# Altium schematic symbol library afra.SchLib: 135 symbols (part 1 of 4)
Pins are listed as number, name and electrical type; pins without a type are passive.

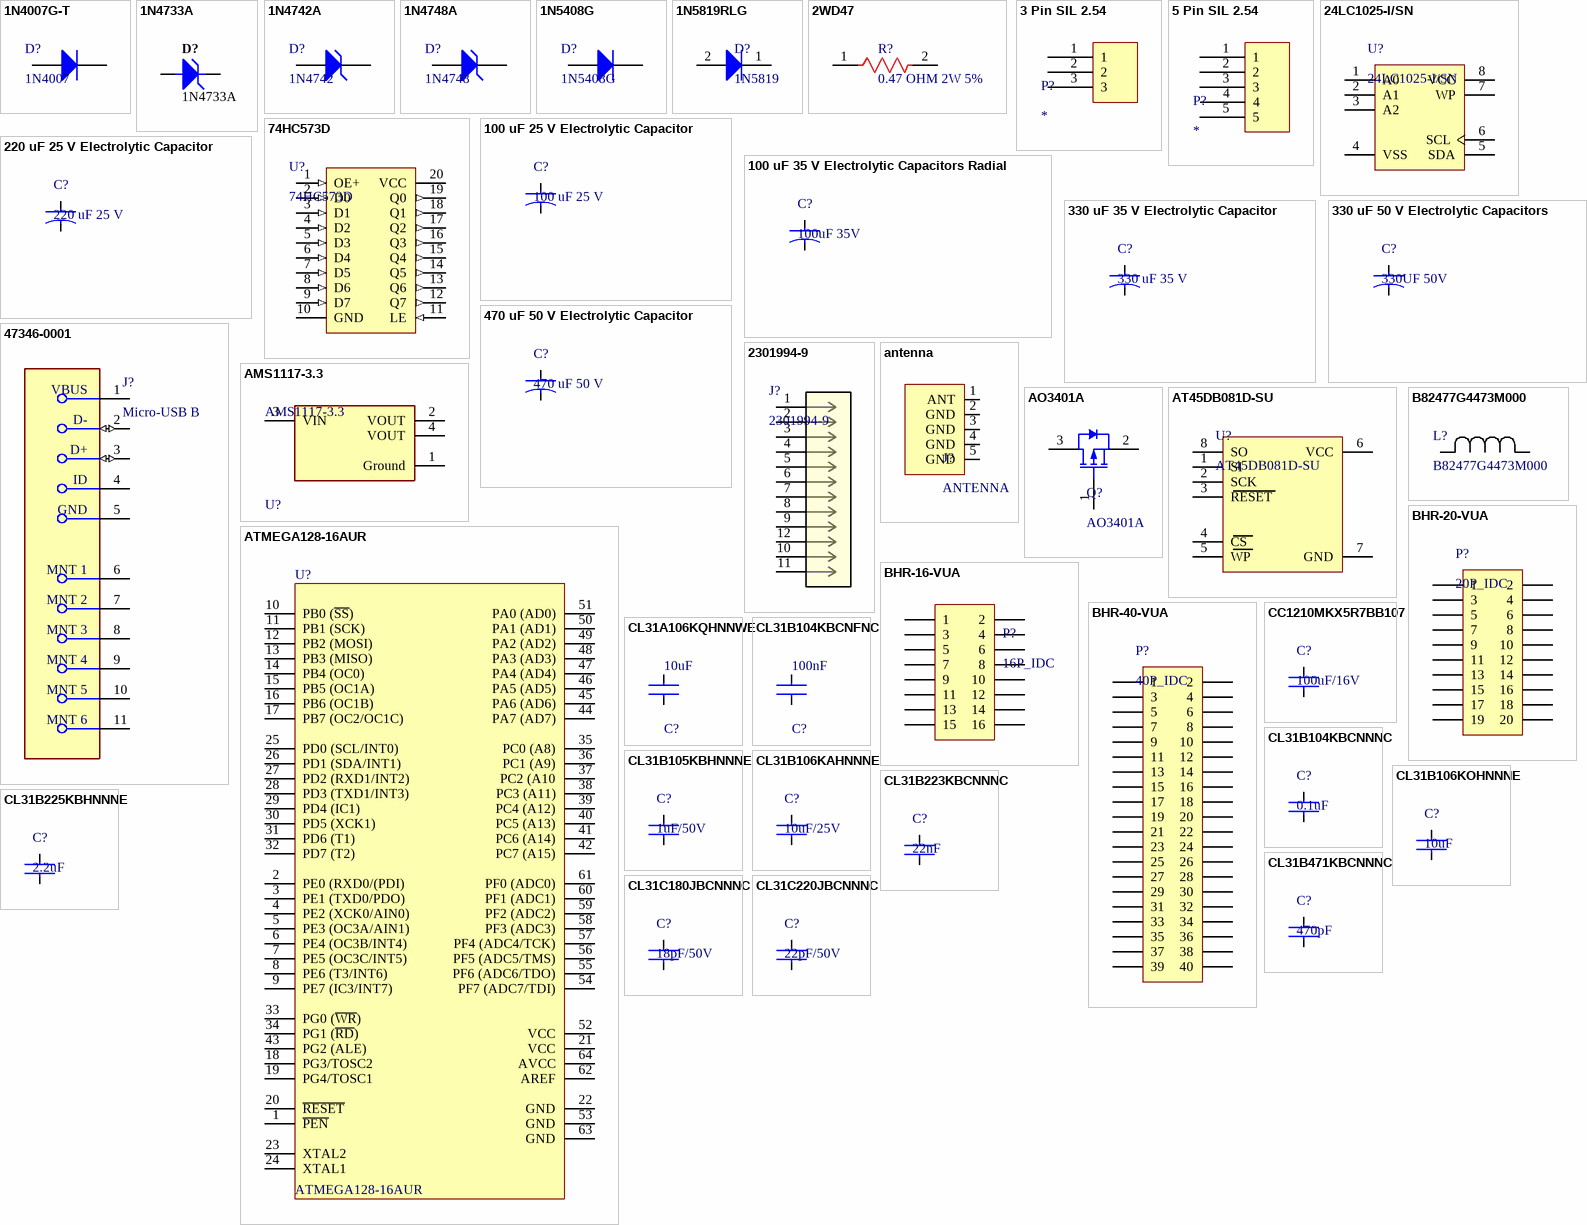
[diagram p0: symbols 1N4007G-T to CL31C220JBCNNNC]

## 1N4007G-T
designator D?, comment 1N4007
Diode Standard 1000V (1kV) 1A Through Hole DO-41; Manufacturer: Diodes; Manufacturer Part Number: 1N4007G-T; Max Reverse Current: 5uA; Element Configuration: Single; Max Surge Current: 30A; Forward Voltage: 1V; Reverse Recovery Time: 2us; Capacitance: 8pF; Supplier 1: Newark; RoHS: Yes; Category: Rectifier Diodes; Stock 1: 4695; Pricing 1: 1=0.30700, 5=0.30700, 10=0.21700, 25=0.18400, 50=0.15000, 100=0.11700 (USD); Mount: Through Hole; Case/Package: DO-41; Number of Pins: 2; Weight: 0.010582oz; Min Operating Temperature: -65°C; Max Operating Temperature: 175°C; Packaging: Tape and Reel; Package Quantity: 5000; Polarity: Standard; Voltage Rating (DC): 1kV; Current Rating: 1A; Output Current: 1A; Average Rectified Current: 1A; Max Repetitive Reverse Voltage (Vrrm): 1kV; Peak Non-Repetitive Surge Current: 30A; Max Reverse Voltage (DC): 1kV; Recovery Time: 2us; Forward Current: 1A; Reverse Voltage (DC): 1kV; Series: -; Length: 4.7mm; Width: 2.71mm; Height: 2.71mm; Radiation Hardening: No; Lead Free: Lead Free; RoHS Compliant: Yes; ComponentLink1URL: https://datasheet.ciiva.com/36525/1537942-36525995.pdf?src-supplier=Jameco; ComponentLink1Description: https://datasheet.ciiva.com/36525/1537942-36525995.pdf?src-supplier=Jameco; ComponentLink2URL: https://datasheet.ciiva.com/16395/ds29002-16395514.pdf?src-supplier=Future+Electronics; ComponentLink2Description: https://datasheet.ciiva.com/16395/ds29002-16395514.pdf?src-supplier=Future+Electronics; ComponentLink3URL: https://datasheet.ciiva.com/15219/getdatasheetpartid-213960-15219547.pdf?src-supplier=Verical; ComponentLink3Description: https://datasheet.ciiva.com/15219/getdatasheetpartid-213960-15219547.pdf?src-supplier=Verical; ComponentLink4URL: https://datasheet.ciiva.com/912/ds29002-912230.pdf?src-supplier=Digi-Key; ComponentLink4Description: https://datasheet.ciiva.com/912/ds29002-912230.pdf?src-supplier=Digi-Key; Supplier Part Number 1: 69AH4072
footprint DIODE-41 (AXIAL, 2-Leads, Diameter 2.35mm)
pins: 1 K, 2 A

## 1N4733A
designator D?
Zener Diode, 5.1V, 1W, 5%, -65 to 200 degC, 2-Pin DO-41, Body 2.72 x 5.2 mm, RoHS; Manufacturer: Fairchild Semiconductor; ZZ (Max) (ohm): 7; IR (uA): 10; VZ (Min.) (V): 4.845; Test Current IZ (mA): 49; VZ (Max.) (V): 5.355; PD (W): 1; PartNumber: 1N4733A; Tolerance: 5%; ComponentLink1Description: Manufacturer URL; ComponentLink2Description: Datasheet; DatasheetVersion: Rev. H3; ComponentLink3URL: http://www.fairchildsemi.com/dwg/DO/DO41A.pdf; ComponentLink1URL: http://www.fairchildsemi.com/; Operating and Storage Temperature Range: -65 to 200 degC; ComponentLink2URL: http://www.fairchildsemi.com/ds/1N/1N4744A.pdf; PackageReference: DO-41-2; ComponentLink3Description: Package Specification; PackageVersion: Rev. 2; RoHS: TRUE; Mounting Technology: Through Hole; PackageDescription: 2-Pin Axial leaded, Body 2.72 x 5.2 mm, Lead Spread 25.4 mm
footprint Zener Diode (Silicone Diode Axial 0.4) (2-Leads, Axial leaded, Body 2.72x5.2mm, Pin Spacing 9mm)
pins: 1 A, 2 K

## 1N4742A
designator D?, comment 1N4742
1N4742 Series 1 W 12 V 5 uA Through Hole Zener Diode - DO-41; Manufacturer: ON Semiconductor / Fairchild; Manufacturer Part Number: 1N4742A; Material: Glass; Zener Voltage: 12V; Max Power Dissipation: 1W; Element Configuration: Single; Max Reverse Leakage Current: 5uA; Impedance: 9R; Voltage Tolerance: 5%; Test Current: 21mA; Output Current: 1.2A; ESD Protection: No; Supplier 1: Newark; RoHS: Yes; Category: Zener Diodes; Mount: Through Hole; Case/Package: DO-41-2; Number of Pins: 2; Weight: 0.245g; Contact Plating: Tin,Matte; Min Operating Temperature: -65°C; Max Operating Temperature: 200°C; Packaging: Bulk; Power Dissipation: 1W; Package Quantity: 1000; Tolerance: 5%; Voltage Rating (DC): 12V; Power Rating: 1W; Max Reverse Current: 5uA; Breakdown Voltage: 12V; Zener Current: 21mA; Working Voltage: 12V; Length: 0.25inch; Width: 2inch; Height: 0.25inch; Radiation Hardening: No; Lead Free: Lead Free; REACH SVHC: No SVHC; RoHS Compliant: Yes; ComponentLink1URL: https://datasheet.ciiva.com/8084/1n4730a-8084138.pdf?src-supplier=Avnet; ComponentLink1Description: https://datasheet.ciiva.com/8084/1n4730a-8084138.pdf?src-supplier=Avnet; ComponentLink2URL: https://datasheet.ciiva.com/16790/1n4742a-16790661.pdf?src-supplier=Future+Electronics; ComponentLink2Description: https://datasheet.ciiva.com/16790/1n4742a-16790661.pdf?src-supplier=Future+Electronics; ComponentLink3URL: https://datasheet.ciiva.com/15208/getdatasheetpartid-202460-15208374.pdf?src-supplier=Verical; ComponentLink3Description: https://datasheet.ciiva.com/15208/getdatasheetpartid-202460-15208374.pdf?src-supplier=Verical; ComponentLink4URL: https://datasheet.ciiva.com/6389/1n4731a-6389388.pdf?src-supplier=Digi-Key; ComponentLink4Description: https://datasheet.ciiva.com/6389/1n4731a-6389388.pdf?src-supplier=Digi-Key; ComponentLink5URL: https://datasheet.ciiva.com/1245/1482758-1245342.pdf?src-supplier=Newark; ComponentLink5Description: https://datasheet.ciiva.com/1245/1482758-1245342.pdf?src-supplier=Newark; Supplier Part Number 1: 26AC5800
footprint Zener Diode (Silicone Diode Axial 0.4) (2-Leads, Axial leaded, Body 2.72x5.2mm, Pin Spacing 9mm)
pins: 1 A, 2 K

## 1N4748A
designator D?, comment 1N4748
1N4748 Series 1 W 22 V 5 uA Through Hole Zener Diode - DO-41; Manufacturer: ON Semiconductor / Fairchild; Manufacturer Part Number: 1N4748A; Material: Glass; Zener Voltage: 22V; Element Configuration: Single; Max Power Dissipation: 1W; Impedance: 23R; Voltage Tolerance: 5%; Test Current: 11.5mA; Max Reverse Leakage Current: 5uA; Output Current: 2.2A; ESD Protection: Yes; Supplier 1: Newark; RoHS: Yes; Category: Zener Diodes; Stock 1: 16500; Pricing 1: 1=0.04300, 1000=0.04300, 2000=0.04300, 3000=0.04200, 5000=0.04200, 10000=0.04100 (USD); Mount: Through Hole; Case/Package: DO-41-2; Number of Pins: 2; Contact Plating: Tin,Lead; Weight: 0.245g; Min Operating Temperature: -65°C; Max Operating Temperature: 200°C; Packaging: Bulk; Power Dissipation: 1W; Package Quantity: 1000; Tolerance: 5%; Zener Current: 11.5mA; Voltage Rating (DC): 22V; Power Rating: 1W; Max Reverse Current: 5uA; Working Voltage: 22V; Breakdown Voltage: 22V; Length: 0.25inch; Width: 0.25inch; Height: 0.25inch; Radiation Hardening: No; Lead Free: Lead Free; RoHS Compliant: Yes; REACH SVHC: No SVHC; ComponentLink1URL: https://datasheet.ciiva.com/27051/1200282-27051681.pdf?src-supplier=Jameco; ComponentLink1Description: https://datasheet.ciiva.com/27051/1200282-27051681.pdf?src-supplier=Jameco; ComponentLink2URL: https://datasheet.ciiva.com/15142/getdatasheetpartid-70017-15142358.pdf?src-supplier=Verical; ComponentLink2Description: https://datasheet.ciiva.com/15142/getdatasheetpartid-70017-15142358.pdf?src-supplier=Verical; ComponentLink3URL: https://datasheet.ciiva.com/8059/1482758-8059641.pdf?src-supplier=Element14; ComponentLink3Description: https://datasheet.ciiva.com/8059/1482758-8059641.pdf?src-supplier=Element14; ComponentLink4URL: https://datasheet.ciiva.com/16818/1n4731a-16818107.pdf?src-supplier=Future+Electronics; ComponentLink4Description: https://datasheet.ciiva.com/16818/1n4731a-16818107.pdf?src-supplier=Future+Electronics; ComponentLink5URL: https://datasheet.ciiva.com/897/1n4731a-897586.pdf?src-supplier=Digi-Key; ComponentLink5Description: https://datasheet.ciiva.com/897/1n4731a-897586.pdf?src-supplier=Digi-Key; Supplier Part Number 1: 28AC6644
footprint Zener Diode (Silicone Diode Axial 0.4) (2-Leads, Axial leaded, Body 2.72x5.2mm, Pin Spacing 9mm)
pins: 1 A, 2 K

## 1N5408G
designator D?
Diode Standard 1000 V 3A Through Hole Axial; Manufacturer: ON Semiconductor; Element Configuration: Single; Max Reverse Current: 10uA; Forward Voltage: 1V; Max Repetitive Reverse Voltage (Vrrm): 1kV; Current Rating: 4A; Max Surge Current: 200A; Supplier 1: RSComponents; Manufacturer Part Number: 1N5408G; RoHS: Yes; Category: Rectifier Diodes; Stock 1: 2580; Pricing 1: 10=0.39100, 100=0.18300, 1000=0.14200, 2500=0.12500, 10000=0.10900 (USD); Case/Package: DO-201AD; Number of Pins: 2; Weight: 0.01lb; Contact Plating: Tin,Matte; Min Operating Temperature: -65°C; Max Operating Temperature: 150°C; Packaging: Bulk; Package Quantity: 500; Average Rectified Current: 3A; Polarity: Standard; Voltage Rating (DC): 1kV; Output Current: 3A; Max Reverse Voltage (DC): 1kV; Peak Non-Repetitive Surge Current: 200A; Series: -; Forward Current: 3A; Reverse Voltage: 1kV; Max Forward Surge Current (Ifsm): 200A; Diameter: 5.3mm; Length: 0.374inch; Width: 0.25inch; Height: 9.5mm; Radiation Hardening: No; RoHS Compliant: Yes; Lead Free: Lead Free; Halogen Free: Halogen Free; REACH SVHC: No SVHC; ComponentLink1URL: https://datasheet.ciiva.com/30479/0900766b811a6378-30479275.pdf?src-supplier=RSComponents; ComponentLink1Description: https://datasheet.ciiva.com/30479/0900766b811a6378-30479275.pdf?src-supplier=RSComponents; ComponentLink2URL: https://datasheet.ciiva.com/14557/70099587-14557735.pdf?src-supplier=Allied+Electronics; ComponentLink2Description: https://datasheet.ciiva.com/14557/70099587-14557735.pdf?src-supplier=Allied+Electronics; ComponentLink3URL: https://datasheet.ciiva.com/916/1n5400-d-916338.pdf?src-supplier=Digi-Key; ComponentLink3Description: https://datasheet.ciiva.com/916/1n5400-d-916338.pdf?src-supplier=Digi-Key; Supplier Part Number 1: 7743344
footprint Diodes_Inc_DO-201AD_MFG
pins: 1 K, 2 A

## 1N5819RLG
designator D?, comment 1N5819
Rectifier, 2-Pin Axial_Lead, Pb-Free, Tape and Reel; Manufacturer: On Semiconductor; PartNumber: 1N5819RLG; IFSM Max (A): 25; Configuration: Single; ComponentLink1Description: Manufacturer URL; ComponentLink2Description: Datasheet; ComponentLink3Description: Package Specification; Mounting Technology: Through Hole; ComponentLink3URL: http://www.onsemi.cn/pub_link/Collateral/59-10.PDF; DatasheetVersion: Rev. 10; ComponentLink1URL: http://www.onsemi.com/; Packing: Tape and Reel; PackageVersion: Rev. U, 02/2005; PackageDescription: 2-Pin, Axial Lead, Diameter 2.35 mm; ComponentLink2URL: http://www.onsemi.cn/pub_link/Collateral/1N5817-D.PDF; RoHS: TRUE; PackageReference: AXIAL_LEAD-2-59-10; Supplier 1: Newark; Supplier Part Number 1: 18C9038
footprint SMA (DO-214AC)
pins: 1 K, 2 A

## 2WD47
designator R?, comment 0.47 OHM 2W 5%
RESISTOR 2 WATT METAL OXIDE FILM FLAMEPROOF 0.47 OHM 5% AXIAL LEAD; Manufacturer: NTE Electronics; Manufacturer Part Number: 2WD47; Resistance: 470mR; Temperature Coefficient: 200ppm/°C; Supplier 1: Newark; RoHS: Yes; Category: Through-Hole Resistors; Pricing 1: 1=0.18800 (USD); Mount: Through Hole; Case/Package: Metal; Weight: 0.0024lb; Min Operating Temperature: -55°C; Max Operating Temperature: 200°C; Tolerance: 5%; Power Rating: 2W; Termination: Axial; Length: 3.25inch; Width: 0.25inch; Height: 0.25inch; RoHS Compliant: No; ComponentLink1URL: http://www.onlinecomponents.com/productFiles/mf-NTE/twow.pdf?src-supplier=Onlinecomponents.com; ComponentLink1Description: http://www.onlinecomponents.com/productFiles/mf-NTE/twow.pdf?src-supplier=Onlinecomponents.com; ComponentLink2URL: http://www.alliedelec.com/m/d/d44ce2bb19ec670cc5afc3c1f91c41cf.pdf?src-supplier=Allied+Electronics; ComponentLink2Description: http://www.alliedelec.com/m/d/d44ce2bb19ec670cc5afc3c1f91c41cf.pdf?src-supplier=Allied+Electronics; Supplier Part Number 1: 33C8349
footprint Axial 0.6
pins: 1, 2

## 3 Pin SIL 2.54
designator P?
footprint 3 Pin SIL 2.54
pins: 1, 2, 3

## 5 Pin SIL 2.54
designator P?
footprint 5 Pin SIL 2.54
pins: 1, 2, 3, 4, 5

## 24LC1025-I/SN
designator U?
1 Mbit, 400kHz, 2.5V, 8-Pin SOIC 150mil, Industrial Temperature; DatasheetVersion: revF, Oct-2008; Code_JEDEC: MS-012; Code_IPC: SOIC127P600-8; PackageVersion: revBB, Aug-2009; PackageDescription: 8-Lead Plastic Small Outline (SN) - Narrow, 3.90mm Body [SOIC]; PackageReference: SOIC-SN8; PartNumber: 24LC1025-I/SN; Supplier 1: Digi-Key; Supplier Part Number 1: 24LC1025-I/SN-ND
footprint SOIC-8 (SOIC, 8-Leads, Body 4.9x3.9mm, Pitch 1.27mm, IPC Low Density)
pins: 1 A0, 2 A1, 3 A2, 4 VSS, 5 SDA, 6 SCL, 7 WP, 8 VCC

## 74HC573D
designator U?
Latch Transparent 3-ST 8-CH D-Type 20-Pin SO / IC LATCH OCTAL D 3STATE 20SOIC; Manufacturer: NXP Semiconductors; Min Supply Voltage: 2V; Max Supply Voltage: 6V; Propagation Delay: 225ns; Polarity: Non-Inverting; High Level Output Current: -7.8mA; Number of Bits: 8; Low Level Output Current: 7.8mA; Operating Supply Voltage: 5V; Number of Elements: 1; Output Type: 3-STATE; Supplier 1: Win Source Electronics; Manufacturer Part Number: 74HC573D; RoHS: Yes; Category: Latches and Flip Flops; Stock 1: 278900; Pricing 1: 60=0.84300, 145=0.70200, 220=0.68200, 305=0.66200, 390=0.64200, 520=0.58100 (USD); Mount: Surface Mount; Case/Package: SO; Number of Pins: 20; Min Operating Temperature: -40°C; Max Operating Temperature: 125°C; Packaging: Bulk; Logic Function: Latch; Turn-On Delay Time: 225ns; Technology: CMOS; Output Current: 7.8mA; Voltage: 5V; Radiation Hardening: No; RoHS Compliant: Yes; Lead Free: Lead Free; REACH SVHC: No SVHC; ComponentLink1URL: https://datasheet.ciiva.com/15088/getdatasheetpartid-44256-15088034.pdf?src-supplier=Verical; ComponentLink1Description: https://datasheet.ciiva.com/15088/getdatasheetpartid-44256-15088034.pdf?src-supplier=Verical; ComponentLink2URL: https://datasheet.ciiva.com/16990/0900766b8002d0a0-16990362.pdf?src-supplier=Allied+Electronics; ComponentLink2Description: https://datasheet.ciiva.com/16990/0900766b8002d0a0-16990362.pdf?src-supplier=Allied+Electronics; ComponentLink3URL: https://datasheet.ciiva.com/14133/kk649588-649589-e-14133722.pdf?src-supplier=Distrelec; ComponentLink3Description: https://datasheet.ciiva.com/14133/kk649588-649589-e-14133722.pdf?src-supplier=Distrelec; Supplier Part Number 1: 27017-74HC573D
footprint SOIC20
footprint SOP-20
pins: 1 OE+ (in), 2 D0 (in), 3 D1 (in), 4 D2 (in), 5 D3 (in), 6 D4 (in), 7 D5 (in), 8 D6 (in), 9 D7 (in), 10 GND (power), 11 LE (in), 12 Q7 (out), 13 Q6 (out), 14 Q5 (out), 15 Q4 (out), 16 Q3 (out), 17 Q2 (out), 18 Q1 (out), 19 Q0 (out), 20 VCC (power)

## 100 uF 25 V Electrolytic Capacitor
designator C?, comment 100 uF 25 V
RZ Series Radial 25 V 100 uF Ø 6.3 x 11 mm 105 °C Electrolytic Capacitor; Manufacturer: Samwha; Manufacturer Part Number: RZ1E107M6L011BB280; Capacitance: 100uF; Voltage Rating: 25V; Supplier 1: Future Electronics; RoHS: Yes; Pricing 1: 3600=0.03300 (USD); Case/Package: Radial; Lead Free: Lead Free; ComponentLink1URL: http://www.samwha.com/electric/product/list_pdf2/RZ.pdf?src-supplier=Future+Electronics; ComponentLink1Description: http://www.samwha.com/electric/product/list_pdf2/RZ.pdf?src-supplier=Future+Electronics; Supplier Part Number 1: 1048642
footprint CAP_J-V_10X10P5_RUB
pins: 1, 2

## 100 uF 35 V Electrolytic Capacitors Radial
designator C?, comment 100uF 35V
Aluminum Electrolytic Capacitors Radial, Can - 1000 Hrs @ 105°C; Manufacturer: Panasonic; Manufacturer Part Number: EEU-HD1V101; Tolerance: 20%; Ripple Current: 150mA; Life (Hours): 1000Hour; Lead/Base Style: Straight; Polarity: Polar; Lead Diameter: 0.5mm; Supplier 1: Digi-Key; RoHS: Yes; Category: Aluminum Electrolytic Capacitors; Pricing 1: 1=0.85000, 10=0.60000, 50=0.45340, 100=0.39500, 500=0.29256, 1000=0.24868, 2500=0.23405, 5000=0.21942 (USD); Mount: Through Hole; Case/Package: Radial; Number of Pins: 2; Min Operating Temperature: -55°C; Max Operating Temperature: 105°C; Capacitance: 100uF; Packaging: Bulk; Voltage Rating: 35V; Package Quantity: 200; Voltage Rating (DC): 35V; Termination: Radial; Ripple Current (AC): 150mA; Voltage: 35V; Series: HD; Construction: RADIAL; Diameter: 6.3mm; Length: 11.2mm; Height: 11.2mm; Lead Pitch: 2.5mm; Height - Seated (Max): 0.5inch; Radiation Hardening: No; REACH SVHC: No SVHC; Lead Free: Lead Free; RoHS Compliant: Yes; ComponentLink1URL: https://datasheet.ciiva.com/11779/0900766b80fe5b03-11779839.pdf?src-supplier=RSComponents; ComponentLink1Description: https://datasheet.ciiva.com/11779/0900766b80fe5b03-11779839.pdf?src-supplier=RSComponents; Supplier Part Number 1: P15169-ND
footprint CAP_J-V_10X10P5_RUB
pins: 1, 2

## 220 uF 25 V Electrolytic Capacitor
designator C?, comment 220 uF 25 V
SD Series 25 V 220 uF 85°C 2 KHrs LS=3.5mm Radial Alum Electrolytic Capacitor; Manufacturer: Samwha; Manufacturer Part Number: SD1E227M0811MPF180; Supplier 1: Future Electronics; RoHS: No; Pricing 1: 1000=0.031500 (USD); Supplier Part Number 1: 5083998
footprint Multy_Radial_Capacitor
pins: 1, 2

## 330 uF 35 V Electrolytic Capacitor
designator C?, comment 330 uF 35 V
WB Series 35 V 330 uF 10 x 16 mm LS=5 mm 105°C Aluminum Electrolytic Capacitor; Manufacturer: Samwha; Manufacturer Part Number: WB1V337M10016BB; Supplier 1: Future Electronics; RoHS: No; Pricing 1: 1000=0.09360, 3000=0.07780, 4000=0.07720, 10000=0.07560, 15000=0.07490 (USD); Lead Free: Lead Free; Supplier Part Number 1: 2051425
footprint Multy_Radial_Capacitor
pins: 1, 2

## 330 uF 50 V Electrolytic Capacitors
designator C?, comment 330UF 50V
Aluminum Electrolytic Capacitors Radial, Can - 10000 Hrs @ 105°C; Manufacturer: Rubycon; Manufacturer Part Number: 50YXJ330M10X20; Tolerance: 20%; Ripple Current: 1.22A; Impedance: 60mR; Life (Hours): 10000Hour; Supplier 1: Digi-Key; RoHS: Yes; Category: Aluminum Electrolytic Capacitors; Stock 1: 72; Pricing 1: 1=0.82000, 10=0.57600, 50=0.43560, 100=0.37940, 500=0.28106, 1000=0.23890, 2500=0.22485, 5000=0.21080 (USD); Mount: Through Hole; Case/Package: Radial; Min Operating Temperature: -40°C; Max Operating Temperature: 105°C; Capacitance: 330uF; Termination: Radial; Package Quantity: 1000; Voltage Rating: 50V; Packaging: Bulk; Voltage Rating (DC): 50V; Series: YXJ; Diameter: 10mm; Height: 20mm; Lead Pitch: 5mm; Height - Seated (Max): 0.866inch; Radiation Hardening: No; REACH SVHC: No SVHC; RoHS Compliant: Yes; ComponentLink1URL: https://datasheet.ciiva.com/46371/1657883-46371898.pdf?src-supplier=Element14; ComponentLink1Description: https://datasheet.ciiva.com/46371/1657883-46371898.pdf?src-supplier=Element14; ComponentLink2URL: https://datasheet.ciiva.com/17513/e-yxj-17513675.pdf?src-supplier=Avnet+Europe; ComponentLink2Description: https://datasheet.ciiva.com/17513/e-yxj-17513675.pdf?src-supplier=Avnet+Europe; Supplier Part Number 1: 1189-1424-ND
footprint Multy_Radial_Capacitor
pins: 1, 2

## 470 uF 50 V Electrolytic Capacitor
designator C?, comment 470 uF 50 V
RZ Series Radial 50 V 470 uF Ø 12.5 x 25 mm 105 °C Electrolytic Capacitor; Manufacturer: Samwha; Manufacturer Part Number: RZ1H477M12025BB200; Capacitance: 470uF; Voltage Rating: 50V; Supplier 1: Future Electronics; RoHS: Yes; Pricing 1: 900=0.14700 (USD); Case/Package: Radial; Lead Free: Lead Free; ComponentLink1URL: https://datasheet.ciiva.com/17436/rz-17436439.pdf?src-supplier=Future+Electronics; ComponentLink1Description: https://datasheet.ciiva.com/17436/rz-17436439.pdf?src-supplier=Future+Electronics; Supplier Part Number 1: 1060779
footprint Multy_Radial_Capacitor
pins: 1, 2

## 47346-0001
designator J?, comment Micro-USB B
Micro-USB B Receptacle with Flange, Bottom Mount, Surface Mount, Lead-Free; Manufacturer: Molex; Manufacturer Part Number: 47346-0001; Supplier 1: Arrow Electronics; RoHS: Yes; Category: Headers and Wire Housings; Stock 1: 5771; Pricing 1: 1=1.09160, 10=0.90940, 25=0.90030, 100=0.76040, 250=0.75290, 500=0.74530, 1000=0.57460, 3000=0.56860, 6000=0.56250 (USD); ComponentLink1URL: https://datasheet.ciiva.com/30075/304740473460001-io-nectors-30075527.pdf?src-supplier=Onlinecomponents.com; ComponentLink1Description: https://datasheet.ciiva.com/30075/304740473460001-io-nectors-30075527.pdf?src-supplier=Onlinecomponents.com; ComponentLink2URL: https://datasheet.ciiva.com/16148/1700180473460001-io-nectors-16148917.pdf?src-supplier=Onlinecomponents.com; ComponentLink2Description: https://datasheet.ciiva.com/16148/1700180473460001-io-nectors-16148917.pdf?src-supplier=Onlinecomponents.com; ComponentLink3URL: https://datasheet.ciiva.com/22654/1630785-22654942.pdf?src-supplier=Element14; ComponentLink3Description: https://datasheet.ciiva.com/22654/1630785-22654942.pdf?src-supplier=Element14; ComponentLink4URL: https://datasheet.ciiva.com/4598/0473460001-io-connectors-146446-4598841.pdf?src-supplier=Mouser; ComponentLink4Description: https://datasheet.ciiva.com/4598/0473460001-io-connectors-146446-4598841.pdf?src-supplier=Mouser; ComponentLink5URL: https://datasheet.ciiva.com/1098/1698067-1098476.pdf?src-supplier=Element14; ComponentLink5Description: https://datasheet.ciiva.com/1098/1698067-1098476.pdf?src-supplier=Element14; ComponentLink6URL: https://datasheet.ciiva.com/11731/0900766b80dfe0a7-11731298.pdf?src-supplier=RSComponents; ComponentLink6Description: https://datasheet.ciiva.com/11731/0900766b80dfe0a7-11731298.pdf?src-supplier=RSComponents; ComponentLink7URL: https://datasheet.ciiva.com/16986/70266948-16986683.pdf?src-supplier=Allied+Electronics; ComponentLink7Description: https://datasheet.ciiva.com/16986/70266948-16986683.pdf?src-supplier=Allied+Electronics; ComponentLink8URL: https://datasheet.ciiva.com/28504/0473460001-io-connectors-28504587.pdf?src-supplier=Element14; ComponentLink8Description: https://datasheet.ciiva.com/28504/0473460001-io-connectors-28504587.pdf?src-supplier=Element14; ComponentLink9URL: https://datasheet.ciiva.com/46390/1681853-46390956.pdf?src-supplier=Element14; ComponentLink9Description: https://datasheet.ciiva.com/46390/1681853-46390956.pdf?src-supplier=Element14; Supplier Part Number 1: 47346-0001
footprint Micro_USB_47346- 1001
pins: 1 VBUS (power), 2 D- (io), 3 D+ (io), 4 ID, 5 GND (power), 6 MNT 1, 7 MNT 2, 8 MNT 3, 9 MNT 4, 10 MNT 5, 11 MNT 6

## 2301994-9
designator J?
No Description Available; Mfr_Name: TE Connectivity; Copyright: Copyright (C) 2022 Ultra Librarian. All rights reserved.; Manufacturer_Part_Number: 2301994-9; RefDes: RefDes; Type: DEV
footprint CONN12_2301994-9_TEC
pins: 1, 2, 3, 4, 5, 6, 7, 8, 9, 10, 11, 12

## AMS1117-3.3
designator U?
Fixed 15V 3.3V 1.3V @ 800mA SOT-223 Dropout Regulators(LDO) RoHS
footprint Advanced_Monolithic_Systems_AMS1117_IPC_A
pins: 1 Ground (power), 2 VOUT, 3 VIN (power), 4 VOUT

## antenna
designator J?, comment ANTENNA
footprint Antenna
pins: 1 ANT, 2 GND, 3 GND, 4 GND, 5 GND

## AO3401A
designator Q?
No Description Available; Mfr_Name: Alpha and Omega Semiconductor; Type: DEV; Copyright: Copyright (C) 2022 Ultra Librarian. All rights reserved.; Manufacturer_Part_Number: AO3401A; RefDes: RefDes
footprint SOT-23-3L_AOS
pins: 1 G "gate", 2 S "source", 3 D "drain"

## AT45DB081D-SU
designator U?
IC FLASH 8MBIT 66MHZ 8SOIC, FLASH Memory IC 8Mb (264 Bytes x 4096 pages) SPI 8-SOIC; Manufacturer: Microchip / Atmel; Interface: SPI,Serial; Max Supply Voltage: 3.6V; Min Supply Voltage: 2.7V; Address Bus Width: 1b; Memory Type: FLASH,DataFLASH; Frequency: 50MHz; Access Time: 6ns; Nominal Supply Current: 15mA; Sync/Async: Synchronous; Supplier 1: Digi-Key; Manufacturer Part Number: AT45DB081D-SU; RoHS: Yes; Category: Flash; Mount: Surface Mount; Case/Package: SOIC; Number of Pins: 8; Min Operating Temperature: -40°C; Max Operating Temperature: 85°C; Packaging: Rail/Tube; Density: 8Mb; Memory Size: 8Mb; Package Quantity: 95; Series: -; Access Time-Max: 6ns; Supply Current: 15mA; Length: 5.38mm; Width: 5.41mm; Height: 1.7mm; Radiation Hardening: No; RoHS Compliant: Yes; REACH SVHC: No SVHC; ComponentLink1URL: https://datasheet.ciiva.com/15126/getdatasheetpartid-364798-15126466.pdf?src-supplier=Verical; ComponentLink1Description: https://datasheet.ciiva.com/15126/getdatasheetpartid-364798-15126466.pdf?src-supplier=Verical; ComponentLink2URL: https://datasheet.ciiva.com/20167/73-4344-20167523.pdf?src-supplier=Rapid+Electronics; ComponentLink2Description: https://datasheet.ciiva.com/20167/73-4344-20167523.pdf?src-supplier=Rapid+Electronics; ComponentLink3URL: https://datasheet.ciiva.com/26869/at45db081d-su-26869104.pdf?src-supplier=IIIC; ComponentLink3Description: https://datasheet.ciiva.com/26869/at45db081d-su-26869104.pdf?src-supplier=IIIC; ComponentLink4URL: https://datasheet.ciiva.com/1904/at45db081d-1904487.pdf?src-supplier=Digi-Key; ComponentLink4Description: https://datasheet.ciiva.com/1904/at45db081d-1904487.pdf?src-supplier=Digi-Key; ComponentLink5URL: https://datasheet.ciiva.com/1564/97337-1564970.pdf?src-supplier=Farnell; ComponentLink5Description: https://datasheet.ciiva.com/1564/97337-1564970.pdf?src-supplier=Farnell; ComponentLink6URL: https://datasheet.ciiva.com/1510/97337-1510039.pdf?src-supplier=Element14; ComponentLink6Description: https://datasheet.ciiva.com/1510/97337-1510039.pdf?src-supplier=Element14; Supplier Part Number 1: AT45DB081D-SU-ND
footprint SOIC-8 (SOIC, 8-Leads, Body 4.9x3.9mm, Pitch 1.27mm, IPC Low Density)
pins: 1 SI, 2 SCK, 3 RESET, 4 CS, 5 WP, 6 VCC (power), 7 GND (power), 8 SO

## ATMEGA128-16AUR
designator U?
8-bit AVR Microcontroller, 4.5-5.5V, 128KB Flash, 4KB EEPROM, 4KB SRAM, 64-pin TQFP, Industrial Grade (-40°C to 85°C), Reel; ComponentLink1Description: Manufacturer URL; ComponentLink2Description: ATmega128(L) Datasheet; DatasheetVersion: revX, Jun-2011; ComponentLink3URL: http://www.atmel.com/dyn/resources/prod_documents/2467S.pdf; ComponentLink3Description: ATmega128(L) Summary; ComponentLink1URL: http://www.atmel.com/; Code_JEDEC: MS-026-AEB; PackageVersion: revC, Oct-2010; PackageDescription: 64-Pin Plastic Thin Profile Quad Flat Pack, 14 x 14 x 1.0 mm Body, 0.8 mm Pitch (TQFP); ComponentLink2URL: http://www.atmel.com/dyn/resources/prod_documents/doc2467.pdf; PackageReference: 64A; PartNumber: ATMEGA128-16AUR
footprint 64-TQFP (Thin QFP, 64-Leads, Body 14x14mm, Pitch 0.8mm, IPC Low Density)
pins: 1 ~{PEN}, 2 PE0 (RXD0/(PDI), 3 PE1 (TXD0/PDO), 4 PE2 (XCK0/AIN0), 5 PE3 (OC3A/AIN1), 6 PE4 (OC3B/INT4), 7 PE5 (OC3C/INT5), 8 PE6 (T3/INT6), 9 PE7 (IC3/INT7), 10 PB0 (~{SS}), 11 PB1 (SCK), 12 PB2 (MOSI), 13 PB3 (MISO), 14 PB4 (OC0), 15 PB5 (OC1A), 16 PB6 (OC1B), 17 PB7 (OC2/OC1C), 18 PG3/TOSC2, 19 PG4/TOSC1, 20 ~{RESET}, 21 VCC (power), 22 GND (power), 23 XTAL2, 24 XTAL1, 25 PD0 (SCL/INT0), 26 PD1 (SDA/INT1), 27 PD2 (RXD1/INT2), 28 PD3 (TXD1/INT3), 29 PD4 (IC1), 30 PD5 (XCK1), 31 PD6 (T1), 32 PD7 (T2), 33 PG0 (~{WR}), 34 PG1 (~{RD}), 35 PC0 (A8), 36 PC1 (A9), 37 PC2 (A10, 38 PC3 (A11), 39 PC4 (A12), 40 PC5 (A13), 41 PC6 (A14), 42 PC7 (A15), 43 PG2 (ALE), 44 PA7 (AD7), 45 PA6 (AD6), 46 PA5 (AD5), 47 PA4 (AD4), 48 PA3 (AD3), 49 PA2 (AD2), 50 PA1 (AD1), 51 PA0 (AD0), 52 VCC (power), 53 GND (power), 54 PF7 (ADC7/TDI), 55 PF6 (ADC6/TDO), 56 PF5 (ADC5/TMS), 57 PF4 (ADC4/TCK), 58 PF3 (ADC3), 59 PF2 (ADC2), 60 PF1 (ADC1), 61 PF0 (ADC0), 62 AREF, 63 GND (power), 64 AVCC (power)

## B82477G4473M000
designator L?
No Description Available; Mfr_Name: TDK; Type: DEV; Copyright: Copyright (C) 2022 Ultra Librarian. All rights reserved.; Manufacturer_Part_Number: B82477G4473M000; RefDes: RefDes
footprint IND_EPCOS_B82477G4_EPC
pins: 1, 2

## BHR-16-VUA
designator P?, comment 16P_IDC
Headers & Wire Housings 16P STRAIGHT; Manufacturer: Adam Equipment; Manufacturer Part Number: BHR-16-VUA; Current Rating: 1A; Number of Positions: 16; Pitch: 2.54mm; Supplier 1: Digi-Key; RoHS: Yes; Category: Connectors; Stock 1: 804; Pricing 1: 1=0.45000, 10=0.42400, 100=0.29690, 500=0.25452, 1000=0.21210, 5000=0.18180, 10000=0.16968 (USD); Contact Plating: Gold; Contact Material: Brass; Package Quantity: 276; Number of Rows: 2; Packaging: Tray; Orientation: Straight; Termination: IDC; Lead Free: Lead Free; ComponentLink1URL: https://datasheet.ciiva.com/16418/page-319-321-16418937.pdf?src-supplier=Future+Electronics; ComponentLink1Description: https://datasheet.ciiva.com/16418/page-319-321-16418937.pdf?src-supplier=Future+Electronics; Supplier Part Number 1: 2057-BHR-16-VUA-ND
footprint 16Pin_IDC_Connector
pins: 1, 2, 3, 4, 5, 6, 7, 8, 9, 10, 11, 12, 13, 14, 15, 16

## BHR-20-VUA
designator P?, comment 20P_IDC
Conn Shrouded Header (4 Sides) HDR 20 POS 2.54mm Solder ST Top Entry Thru-Hole Tray; Manufacturer: Adam Equipment; Manufacturer Part Number: BHR-20-VUA; Current Rating: 1A; Number of Positions: 20; Supplier 1: Digi-Key; RoHS: Yes; Category: Connectors; Stock 1: 1576; Pricing 1: 1=0.44000, 10=0.41700, 160=0.31944, 480=0.27775, 800=0.24998, 5120=0.20137, 10080=0.18748 (USD); Contact Material: Brass; Contact Plating: Gold; Number of Rows: 2; Packaging: Tray; Package Quantity: 216; Termination: IDC; Pitch: 2.54mm; Lead Free: Lead Free; ComponentLink1URL: https://datasheet.ciiva.com/16418/page-319-321-16418950.pdf?src-supplier=Future+Electronics; ComponentLink1Description: https://datasheet.ciiva.com/16418/page-319-321-16418950.pdf?src-supplier=Future+Electronics; Supplier Part Number 1: 2057-BHR-20-VUA-ND
footprint 20Pin_IDC_Connector
pins: 1, 2, 3, 4, 5, 6, 7, 8, 9, 10, 11, 12, 13, 14, 15, 16, 17, 18, 19, 20

## BHR-40-VUA
designator P?, comment 40P_IDC
Conn Shrouded Header (4 Sides) HDR 40 POS 2.54mm Solder ST Top Entry Thru-Hole Tray; Manufacturer: Adam Equipment; Manufacturer Part Number: BHR-20-VUA; Current Rating: 1A; Number of Positions: 20; Supplier 1: Digi-Key; RoHS: Yes; Category: Connectors; Stock 1: 1576; Pricing 1: 1=0.44000, 10=0.41700, 160=0.31944, 480=0.27775, 800=0.24998, 5120=0.20137, 10080=0.18748 (USD); Contact Material: Brass; Contact Plating: Gold; Number of Rows: 2; Packaging: Tray; Package Quantity: 216; Termination: IDC; Pitch: 2.54mm; Lead Free: Lead Free; ComponentLink1URL: https://datasheet.ciiva.com/16418/page-319-321-16418950.pdf?src-supplier=Future+Electronics; ComponentLink1Description: https://datasheet.ciiva.com/16418/page-319-321-16418950.pdf?src-supplier=Future+Electronics; Supplier Part Number 1: 2057-BHR-20-VUA-ND
footprint 40Pin_IDC_Connector
pins: 1, 2, 3, 4, 5, 6, 7, 8, 9, 10, 11, 12, 13, 14, 15, 16, 17, 18, 19, 20, 21, 22, 23, 24, 25, 26, 27, 28, 29, 30, 31, 32, 33, 34, 35, 36, 37, 38, 39, 40

## CC1210MKX5R7BB107
designator C?, comment 100uF/16V
1210 100 uF 16 V ±20% Tolerance X5R Multilayer Ceramic Chip Capacitor; Manufacturer: Yageo; Manufacturer Part Number: CC1210MKX5R7BB107; Capacitance: 100uF; Voltage Rating: 16V; Supplier 1: Newark; RoHS: Yes; Category: Ceramic Capacitors; Pricing 1: 1=0.86100, 500=0.82600, 1000=0.75000, 2000=0.67600, 3000=0.65000, 5000=0.63600 (USD); Mount: Surface Mount; Case/Package: 1210; Case Code (Metric): 3225; Case Code (Imperial): 1210; Weight: 0.000564oz; Min Operating Temperature: -55°C; Max Operating Temperature: 85°C; Dielectric: X5R; Packaging: Tape and Reel; Tolerance: 20%; Resistor Type: Ceramic; Voltage Rating (DC): 16V; Package Quantity: 500; Length: 0.126inch; Width: 0.098inch; Thickness: 0.11inch; Lead Free: Lead Free; Halogen Free: Halogen Free; ComponentLink1URL: http://www.mouser.com/ds/2/447/Yageo_UPY-GP_NP0_16V-to-50V_9-358835.pdf?src-supplier=Mouser; ComponentLink1Description: http://www.mouser.com/ds/2/447/Yageo_UPY-GP_NP0_16V-to-50V_9-358835.pdf?src-supplier=Mouser; ComponentLink2URL: http://www.yageo.com/documents/recent/UPY-GPHC_X5R_4V-to-50V_25.pdf?src-supplier=Digi-Key; ComponentLink2Description: http://www.yageo.com/documents/recent/UPY-GPHC_X5R_4V-to-50V_25.pdf?src-supplier=Digi-Key; Supplier Part Number 1: 90AJ5890
footprint Samsung_CL32_IPC_A_1210
pins: 1, 2

## CL31A106KQHNNWE
designator C?, comment 10uF
CAP CER 10UF 6.3V X5R 1206, ±10% 6.3V Ceramic Capacitor X5R 1206 (3216 Metric); Supplier 1: Digi-Key; Supplier Part Number 1: 1276-3043-1-ND
footprint C0402
pins: 1, 2

## CL31B104KBCNFNC
designator C?, comment 100nF
CAP CER 0.1UF 50V X7R 1206, ±10% 50V Ceramic Capacitor X7R 1206 (3216 Metric); Supplier 1: Digi-Key; Supplier Part Number 1: 1276-2744-1-ND
footprint C0402
pins: 1, 2

## CL31B104KBCNNNC
designator C?, comment 0.1uF
Ceramic capacitor SMD-1206 100nF /50V X7R# K +-10%, Samsung, RoHS; Manufacturer Part Number: CL31B104KBCNNNC; Tolerance: 10%; Dielectric: X7R; Voltage: 50V; Supplier 1: Arrow Electronics; Manufacturer: Samsung; RoHS: Yes; Category: Ceramic Capacitors; Stock 1: 3508000; Pricing 1: 4000=0.02060, 8000=0.01660 (USD); Mount: Surface Mount; Case/Package: 1206; Case Code (Metric): 3216; Case Code (Imperial): 1206; Material: Ceramic; Contact Plating: Tin; Min Operating Temperature: -55°C; Max Operating Temperature: 125°C; Capacitance: 100nF; Voltage Rating (DC): 50V; Packaging: Tape and Reel; Voltage Rating: 50V; Series: CL; Length: 3.2mm; Width: 0.063inch; Height: 0.85mm; Depth: 1.6mm; Thickness: 0.037inch; Radiation Hardening: No; Lead Free: Lead Free; RoHS Compliant: Yes; ComponentLink1URL: https://datasheet.ciiva.com/25710/cl31b104kbcnnnc-25710293.pdf?src-supplier=Digi-Key; ComponentLink1Description: https://datasheet.ciiva.com/25710/cl31b104kbcnnnc-25710293.pdf?src-supplier=Digi-Key; ComponentLink2URL: https://datasheet.ciiva.com/29201/451941-da-01-en-vs-kondensator-1206-29201689.pdf?src-supplier=Conrad; ComponentLink2Description: https://datasheet.ciiva.com/29201/451941-da-01-en-vs-kondensator-1206-29201689.pdf?src-supplier=Conrad; ComponentLink3URL: https://datasheet.ciiva.com/16298/cl05b104kq5nnnc-16298186.pdf?src-supplier=Future+Electronics; ComponentLink3Description: https://datasheet.ciiva.com/16298/cl05b104kq5nnnc-16298186.pdf?src-supplier=Future+Electronics; Supplier Part Number 1: CL31B104KBCNNNC
footprint C0402
pins: 1, 2

## CL31B105KBHNNNE
designator C?, comment 1uF/50V
CAP CER 1UF 50V X7R 1206; Manufacturer: Samsung; Manufacturer Part Number: CL31B105KBHNNNE; Material: Ceramic; Tolerance: 10%; Supplier 1: Arrow Electronics; RoHS: Yes; Category: Ceramic Capacitors; Stock 1: 2628000; Pricing 1: 2000=0.02720, 4000=0.02450, 10000=0.02260 (USD); Mount: Surface Mount; Case/Package: 1206; Case Code (Metric): 3216; Case Code (Imperial): 1206; Contact Plating: Tin; Min Operating Temperature: -55°C; Max Operating Temperature: 125°C; Capacitance: 1uF; Dielectric: X7R; Voltage Rating: 50V; Packaging: Tape and Reel; Package Quantity: 1; Voltage: 50V; Voltage Rating (DC): 50V; Series: CL; Construction: Flat; Length: 3.2mm; Width: 0.063inch; Height: 1.6mm; Thickness: 0.071inch; Depth: 1.6mm; Radiation Hardening: No; Lead Free: Lead Free; RoHS Compliant: Yes; ComponentLink1URL: https://datasheet.ciiva.com/25729/cl31b105kbhnnne-25729445.pdf?src-supplier=Digi-Key; ComponentLink1Description: https://datasheet.ciiva.com/25729/cl31b105kbhnnne-25729445.pdf?src-supplier=Digi-Key; ComponentLink2URL: https://datasheet.ciiva.com/16330/cl31b105kbhnnne-16330112.pdf?src-supplier=Future+Electronics; ComponentLink2Description: https://datasheet.ciiva.com/16330/cl31b105kbhnnne-16330112.pdf?src-supplier=Future+Electronics; ComponentLink3URL: https://datasheet.ciiva.com/26838/getdatasheetpartid-357471-26838902.pdf?src-supplier=Verical; ComponentLink3Description: https://datasheet.ciiva.com/26838/getdatasheetpartid-357471-26838902.pdf?src-supplier=Verical; ComponentLink4URL: https://datasheet.ciiva.com/29200/453294-da-01-en-vs-kondensator-1206-29200453.pdf?src-supplier=Conrad; ComponentLink4Description: https://datasheet.ciiva.com/29200/453294-da-01-en-vs-kondensator-1206-29200453.pdf?src-supplier=Conrad; Supplier Part Number 1: CL31B105KBHNNNE
footprint C0402
pins: 1, 2

## CL31B106KAHNNNE
designator C?, comment 10uF/25V
Ceramic capacitor SMD-1206 10000nF (10uF) /25V X7R# K 10%, Samsung, RoHS/4k/; Manufacturer Part Number: CL31B106KAHNNNE; Dielectric: X7R; Voltage Rating: 25V; Supplier 1: Arrow Electronics; Manufacturer: Samsung; RoHS: Yes; Category: Ceramic Capacitors; Stock 1: 7404000; Pricing 1: 2000=0.05130, 4000=0.04600, 10000=0.04420, 14000=0.03230, 50000=0.03200 (USD); Mount: Surface Mount; Case/Package: 1206; Case Code (Metric): 3216; Case Code (Imperial): 1206; Min Operating Temperature: -55°C; Max Operating Temperature: 125°C; Tolerance: 10%; Capacitance: 10uF; Packaging: Tape and Reel; Package Quantity: 1; Voltage: 25V; Series: CL; Construction: Flat; Length: 3.2mm; Width: 0.063inch; Height: 1.6mm; Thickness: 0.071inch; Depth: 1.6mm; Radiation Hardening: No; RoHS Compliant: Yes; ComponentLink1URL: https://datasheet.ciiva.com/25795/cl31b106kahnnne-25795260.pdf?src-supplier=Digi-Key; ComponentLink1Description: https://datasheet.ciiva.com/25795/cl31b106kahnnne-25795260.pdf?src-supplier=Digi-Key; ComponentLink2URL: https://datasheet.ciiva.com/26838/getdatasheetpartid-356415-26838914.pdf?src-supplier=Verical; ComponentLink2Description: https://datasheet.ciiva.com/26838/getdatasheetpartid-356415-26838914.pdf?src-supplier=Verical; ComponentLink3URL: https://datasheet.ciiva.com/16498/cl03a105mq3csnc-16498474.pdf?src-supplier=Future+Electronics; ComponentLink3Description: https://datasheet.ciiva.com/16498/cl03a105mq3csnc-16498474.pdf?src-supplier=Future+Electronics; Supplier Part Number 1: CL31B106KAHNNNE
footprint C0402
pins: 1, 2

## CL31B106KOHNNNE
designator C?, comment 10uF
Cap Ceramic 10uF 16V X7R 10% Pad SMD 1206 125°C T/R; Manufacturer: Samsung; Manufacturer Part Number: CL31B106KOHNNNE; Supplier 1: Future Electronics; RoHS: Yes; Category: Ceramic Capacitors; Stock 1: 116000; Pricing 1: 2000=0.03800, 6000=0.03460, 8000=0.03450, 20000=0.03420, 30000=0.03400 (USD); Mount: Surface Mount; Case/Package: 1206; Case Code (Metric): 3216; Case Code (Imperial): 1206; Material: Ceramic; Contact Plating: Tin; Min Operating Temperature: -55°C; Max Operating Temperature: 125°C; Capacitance: 10uF; Tolerance: 10%; Dielectric: X7R; Package Quantity: 1; Packaging: Tape and Reel; Voltage Rating: 16V; Series: CL; Length: 3.2mm; Width: 0.063inch; Height: 1.6mm; Thickness: 0.071inch; Depth: 1.6mm; RoHS Compliant: Yes; ComponentLink1URL: https://datasheet.ciiva.com/25795/cl31b106kohnnne-25795201.pdf?src-supplier=Digi-Key; ComponentLink1Description: https://datasheet.ciiva.com/25795/cl31b106kohnnne-25795201.pdf?src-supplier=Digi-Key; ComponentLink2URL: https://datasheet.ciiva.com/29201/452535-da-01-en-vs-kondensator-1206-29201132.pdf?src-supplier=Conrad; ComponentLink2Description: https://datasheet.ciiva.com/29201/452535-da-01-en-vs-kondensator-1206-29201132.pdf?src-supplier=Conrad; Supplier Part Number 1: 2558872
footprint C0402
pins: 1, 2

## CL31B223KBCNNNC
designator C?, comment 22nF
Cap Ceramic 22nF 50V C0G 5% SMD 1206 125°C Paper T/R; Manufacturer: Samsung; Manufacturer Part Number: CL31B223KBCNNNC; Capacitance: 22pF; Temperature Coefficient: 300ppm/°C; Supplier 1: Arrow Electronics; RoHS: Yes; Category: Ceramic Capacitors; Stock 1: 470; Pricing 1: 1=0.13340, 10=0.08580, 25=0.08490, 100=0.04720, 250=0.04670 (USD); Mount: Surface Mount; Case/Package: 1206; Case Code (Metric): 3216; Case Code (Imperial): 1206; Material: Ceramic; Min Operating Temperature: -55°C; Max Operating Temperature: 125°C; Tolerance: 5%; Dielectric: C0G; Voltage Rating: 50V; Package Quantity: 1; Packaging: Tape and Reel; Voltage: 50V; Voltage Rating (DC): 50V; Series: CL; Construction: Flat; Length: 3.2mm; Width: 0.063inch; Height: 0.85mm; Depth: 1.6mm; Thickness: 0.039inch; Radiation Hardening: No; Lead Free: Lead Free; RoHS Compliant: Yes; ComponentLink1URL: https://datasheet.ciiva.com/25799/cl31c220jbcnnnc-25799089.pdf?src-supplier=Digi-Key; ComponentLink1Description: https://datasheet.ciiva.com/25799/cl31c220jbcnnnc-25799089.pdf?src-supplier=Digi-Key; ComponentLink2URL: https://datasheet.ciiva.com/29201/452314-da-01-en-vs-kondensator-1206-29201377.pdf?src-supplier=Conrad; ComponentLink2Description: https://datasheet.ciiva.com/29201/452314-da-01-en-vs-kondensator-1206-29201377.pdf?src-supplier=Conrad; Supplier Part Number 1: CL31C220JBCNNNC
footprint C0402
pins: 1, 2

## CL31B225KBHNNNE
designator C?, comment 2.2uF
Cap Ceramic 2.2uF 50V C0G 5% SMD 1206 125°C Paper T/R; Manufacturer: Samsung; Manufacturer Part Number: CL31C220JBCNNNC; Capacitance: 22pF; Temperature Coefficient: 300ppm/°C; Supplier 1: Arrow Electronics; RoHS: Yes; Category: Ceramic Capacitors; Stock 1: 470; Pricing 1: 1=0.13340, 10=0.08580, 25=0.08490, 100=0.04720, 250=0.04670 (USD); Mount: Surface Mount; Case/Package: 1206; Case Code (Metric): 3216; Case Code (Imperial): 1206; Material: Ceramic; Min Operating Temperature: -55°C; Max Operating Temperature: 125°C; Tolerance: 5%; Dielectric: C0G; Voltage Rating: 50V; Package Quantity: 1; Packaging: Tape and Reel; Voltage: 50V; Voltage Rating (DC): 50V; Series: CL; Construction: Flat; Length: 3.2mm; Width: 0.063inch; Height: 0.85mm; Depth: 1.6mm; Thickness: 0.039inch; Radiation Hardening: No; Lead Free: Lead Free; RoHS Compliant: Yes; ComponentLink1URL: https://datasheet.ciiva.com/25799/cl31c220jbcnnnc-25799089.pdf?src-supplier=Digi-Key; ComponentLink1Description: https://datasheet.ciiva.com/25799/cl31c220jbcnnnc-25799089.pdf?src-supplier=Digi-Key; ComponentLink2URL: https://datasheet.ciiva.com/29201/452314-da-01-en-vs-kondensator-1206-29201377.pdf?src-supplier=Conrad; ComponentLink2Description: https://datasheet.ciiva.com/29201/452314-da-01-en-vs-kondensator-1206-29201377.pdf?src-supplier=Conrad; Supplier Part Number 1: CL31C220JBCNNNC
footprint C0402
pins: 1, 2

## CL31B471KBCNNNC
designator C?, comment 470pF
Cap Ceramic 470pF 50V C0G 5% SMD 1206 125°C Paper T/R; Manufacturer: Samsung; Manufacturer Part Number: CL31C220JBCNNNC; Capacitance: 22pF; Temperature Coefficient: 300ppm/°C; Supplier 1: Arrow Electronics; RoHS: Yes; Category: Ceramic Capacitors; Stock 1: 470; Pricing 1: 1=0.13340, 10=0.08580, 25=0.08490, 100=0.04720, 250=0.04670 (USD); Mount: Surface Mount; Case/Package: 1206; Case Code (Metric): 3216; Case Code (Imperial): 1206; Material: Ceramic; Min Operating Temperature: -55°C; Max Operating Temperature: 125°C; Tolerance: 5%; Dielectric: C0G; Voltage Rating: 50V; Package Quantity: 1; Packaging: Tape and Reel; Voltage: 50V; Voltage Rating (DC): 50V; Series: CL; Construction: Flat; Length: 3.2mm; Width: 0.063inch; Height: 0.85mm; Depth: 1.6mm; Thickness: 0.039inch; Radiation Hardening: No; Lead Free: Lead Free; RoHS Compliant: Yes; ComponentLink1URL: https://datasheet.ciiva.com/25799/cl31c220jbcnnnc-25799089.pdf?src-supplier=Digi-Key; ComponentLink1Description: https://datasheet.ciiva.com/25799/cl31c220jbcnnnc-25799089.pdf?src-supplier=Digi-Key; ComponentLink2URL: https://datasheet.ciiva.com/29201/452314-da-01-en-vs-kondensator-1206-29201377.pdf?src-supplier=Conrad; ComponentLink2Description: https://datasheet.ciiva.com/29201/452314-da-01-en-vs-kondensator-1206-29201377.pdf?src-supplier=Conrad; Supplier Part Number 1: CL31C220JBCNNNC
footprint C0402
pins: 1, 2

## CL31C180JBCNNNC
designator C?, comment 18pF/50V
Cap Ceramic 18pF 50V C0G 5% Pad SMD 1206 125C T/R; Manufacturer: Samsung; Manufacturer Part Number: CL31C180JBCNNNC; Temperature Coefficient: 300ppm/°C; Supplier 1: Digi-Key; RoHS: Yes; Category: Ceramic Capacitors; Mount: Surface Mount; Case/Package: 1206; Case Code (Metric): 3216; Case Code (Imperial): 1206; Material: Ceramic; Min Operating Temperature: -55°C; Max Operating Temperature: 125°C; Capacitance: 18pF; Tolerance: 5%; Dielectric: C0G; Package Quantity: 1; Packaging: Tape and Reel; Voltage Rating: 50V; Voltage: 50V; Series: CL; Length: 3.2mm; Width: 0.063inch; Height: 0.85mm; Depth: 1.6mm; Thickness: 0.039inch; Radiation Hardening: No; RoHS Compliant: Yes; ComponentLink1URL: https://datasheet.ciiva.com/15196/getdatasheetpartid-494361-15196086.pdf?src-supplier=Verical; ComponentLink1Description: https://datasheet.ciiva.com/15196/getdatasheetpartid-494361-15196086.pdf?src-supplier=Verical; ComponentLink2URL: https://datasheet.ciiva.com/29201/452396-da-01-en-vs-kondensator-1206-29201224.pdf?src-supplier=Conrad; ComponentLink2Description: https://datasheet.ciiva.com/29201/452396-da-01-en-vs-kondensator-1206-29201224.pdf?src-supplier=Conrad; ComponentLink3URL: https://datasheet.ciiva.com/16389/cl05b104kq5nnnc-16389926.pdf?src-supplier=Future+Electronics; ComponentLink3Description: https://datasheet.ciiva.com/16389/cl05b104kq5nnnc-16389926.pdf?src-supplier=Future+Electronics; Supplier Part Number 1: 1276-1844-2-ND
footprint C0402
pins: 1, 2

## CL31C220JBCNNNC
designator C?, comment 22pF/50V
Cap Ceramic 22pF 50V C0G 5% SMD 1206 125°C Paper T/R; Manufacturer: Samsung; Manufacturer Part Number: CL31C220JBCNNNC; Temperature Coefficient: 300ppm/°C; Supplier 1: Arrow Electronics; RoHS: Yes; Category: Ceramic Capacitors; Stock 1: 470; Pricing 1: 1=0.13340, 10=0.08580, 25=0.08490, 100=0.04720, 250=0.04670 (USD); Mount: Surface Mount; Case/Package: 1206; Case Code (Metric): 3216; Case Code (Imperial): 1206; Material: Ceramic; Min Operating Temperature: -55°C; Max Operating Temperature: 125°C; Capacitance: 22pF; Tolerance: 5%; Dielectric: C0G; Voltage Rating: 50V; Package Quantity: 1; Packaging: Tape and Reel; Voltage: 50V; Voltage Rating (DC): 50V; Series: CL; Construction: Flat; Length: 3.2mm; Width: 0.063inch; Height: 0.85mm; Depth: 1.6mm; Thickness: 0.039inch; Radiation Hardening: No; Lead Free: Lead Free; RoHS Compliant: Yes; ComponentLink1URL: https://datasheet.ciiva.com/25799/cl31c220jbcnnnc-25799089.pdf?src-supplier=Digi-Key; ComponentLink1Description: https://datasheet.ciiva.com/25799/cl31c220jbcnnnc-25799089.pdf?src-supplier=Digi-Key; ComponentLink2URL: https://datasheet.ciiva.com/29201/452314-da-01-en-vs-kondensator-1206-29201377.pdf?src-supplier=Conrad; ComponentLink2Description: https://datasheet.ciiva.com/29201/452314-da-01-en-vs-kondensator-1206-29201377.pdf?src-supplier=Conrad; Supplier Part Number 1: CL31C220JBCNNNC
footprint C0402
pins: 1, 2

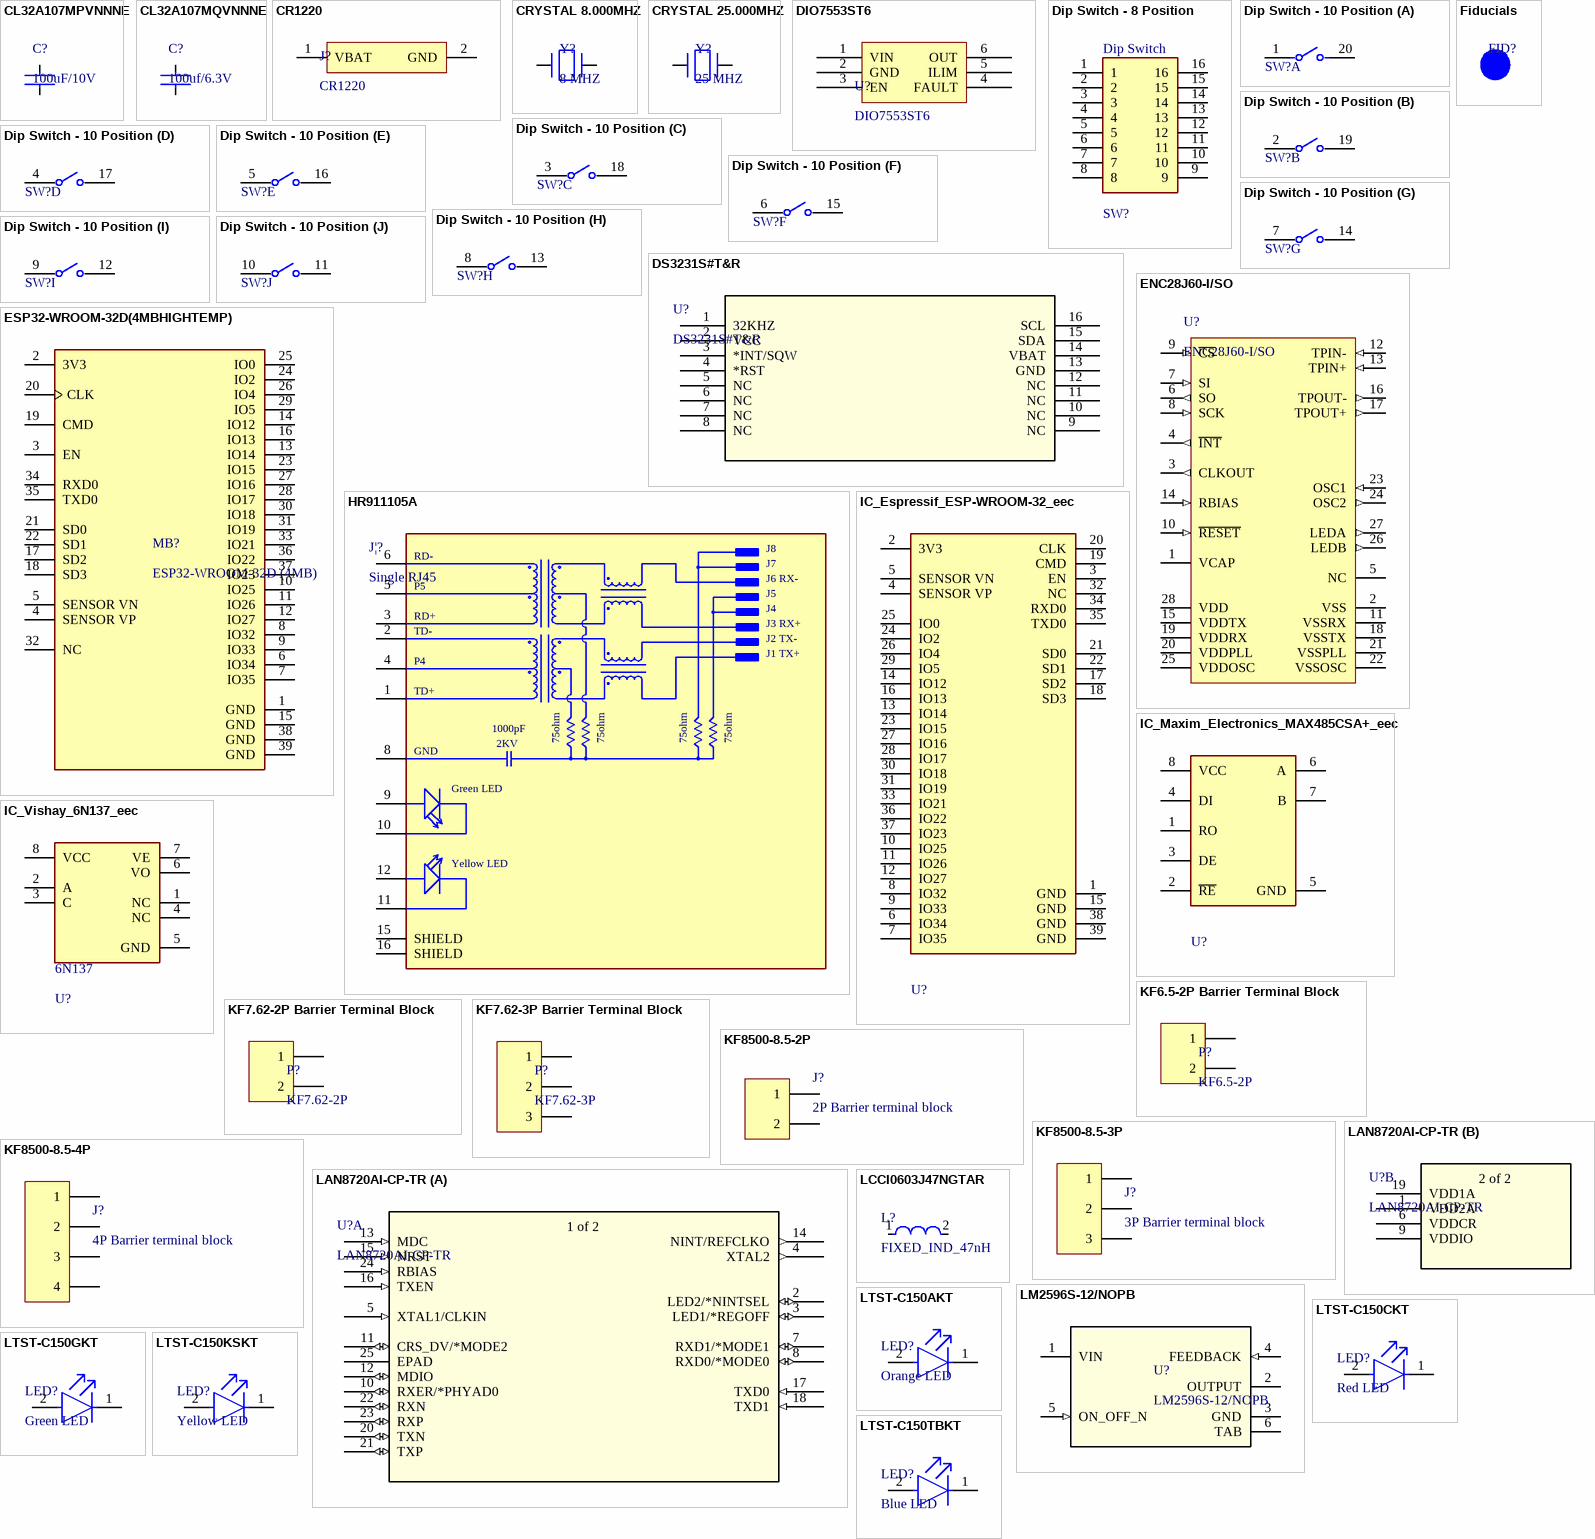
[diagram p1: symbols CL32A107MPVNNNE to LTST-C150TBKT]

## CL32A107MPVNNNE
designator C?, comment 100uF/10V
Cap Ceramic 100uF 10V X5R 20% SMD 1210 85°C Embossed T/R; Manufacturer: Samsung; Manufacturer Part Number: CL32A107MPVNNNE; Supplier 1: Arrow Electronics; RoHS: Yes; Category: Ceramic Capacitors; Stock 1: 24000; Pricing 1: 1=0.35510 (USD); Mount: Surface Mount; Case/Package: 1210; Case Code (Metric): 3225; Case Code (Imperial): 1210; Material: Ceramic; Contact Plating: Tin; Min Operating Temperature: -55°C; Max Operating Temperature: 85°C; Tolerance: 20%; Capacitance: 100uF; Voltage Rating: 10V; Packaging: Tape and Reel; Dielectric: X5R; Voltage: 10V; Voltage Rating (DC): 10V; Length: 3.2mm; Width: 0.098inch; Height: 2.5mm; Thickness: 0.11inch; Depth: 2.5mm; Radiation Hardening: No; Lead Free: Lead Free; RoHS Compliant: Yes; ComponentLink1URL: https://datasheet.ciiva.com/26947/getdatasheetpartid-468228-26947022.pdf?src-supplier=Verical; ComponentLink1Description: https://datasheet.ciiva.com/26947/getdatasheetpartid-468228-26947022.pdf?src-supplier=Verical; Supplier Part Number 1: CL32A107MPVNNNE
footprint C0402
pins: 1, 2

## CL32A107MQVNNNE
designator C?, comment 100uf/6.3V
Cap Ceramic 100uF 6.3V X5R 20% Pad SMD 1210 85¡ãC T/R / CAP CER 100UF 6.3V X5R 1210; Manufacturer: Samsung; Manufacturer Part Number: CL32A107MQVNNNE; Supplier 1: Arrow Electronics; RoHS: Yes; Category: Ceramic Capacitors; Stock 1: 71000; Pricing 1: 1=0.52930, 10=0.42030, 25=0.27020, 100=0.26750, 250=0.24990, 500=0.22890, 1000=0.22070, 3000=0.19350, 6000=0.18550, 15000=0.17680, 30000=0.17290 (USD); Mount: Surface Mount; Case/Package: 1210; Case Code (Metric): 3225; Case Code (Imperial): 1210; Material: Ceramic; Contact Plating: Tin; Min Operating Temperature: -55°C; Max Operating Temperature: 85°C; Tolerance: 20%; Capacitance: 100uF; Dielectric: X5R; Packaging: Tape and Reel; Package Quantity: 1; Voltage Rating: 6.3V; Voltage: 6.3V; Voltage Rating (DC): 6.3V; Series: CL; Construction: Flat; Length: 3.2mm; Width: 0.098inch; Height: 2.5mm; Thickness: 0.11inch; Depth: 2.5mm; Radiation Hardening: No; Lead Free: Lead Free; RoHS Compliant: Yes; ComponentLink1URL: https://datasheet.ciiva.com/25790/cl32a107mqvnnne-25790516.pdf?src-supplier=Digi-Key; ComponentLink1Description: https://datasheet.ciiva.com/25790/cl32a107mqvnnne-25790516.pdf?src-supplier=Digi-Key; ComponentLink2URL: https://datasheet.ciiva.com/26947/getdatasheetpartid-358638-26947023.pdf?src-supplier=Verical; ComponentLink2Description: https://datasheet.ciiva.com/26947/getdatasheetpartid-358638-26947023.pdf?src-supplier=Verical; ComponentLink3URL: https://datasheet.ciiva.com/16397/cl05b104kq5nnnc-16397063.pdf?src-supplier=Future+Electronics; ComponentLink3Description: https://datasheet.ciiva.com/16397/cl05b104kq5nnnc-16397063.pdf?src-supplier=Future+Electronics; Supplier Part Number 1: CL32A107MQVNNNE
footprint C0402
pins: 1, 2

## CR1220
designator J?
footprint CR1220 SMD
pins: 1 VBAT, 2 GND

## CRYSTAL 8.000MHZ
designator Y?, comment 8 MHZ
CRYSTAL 8.000MHZ 20PF THRU; Manufacturer: TXC; Manufacturer Part Number: 9B-8.000MBBK-B; Frequency Stability: 50ppm; Frequency: 8MHz; ESR (Equivalent Series Resistance): 80R; Supplier 1: Digi-Key; RoHS: Yes; Category: Crystals; Pricing 1: 1000=0.16000 (USD); Mount: Through Hole; Case/Package: Metal; Min Operating Temperature: -20°C; Max Operating Temperature: 70°C; Package Quantity: 1000; Frequency Tolerance: 50ppm; Load Capacitance: 20pF; Packaging: Bulk; Length: 0.453inch; Width: 0.197inch; Height: 0.145inch; ComponentLink1URL: https://datasheet.ciiva.com/6733/9b-6733750.pdf?src-supplier=Digi-Key; ComponentLink1Description: https://datasheet.ciiva.com/6733/9b-6733750.pdf?src-supplier=Digi-Key; ComponentLink2URL: https://datasheet.ciiva.com/29631/9b-29631174.pdf?src-supplier=Digi-Key; ComponentLink2Description: https://datasheet.ciiva.com/29631/9b-29631174.pdf?src-supplier=Digi-Key; Supplier Part Number 1: 887-2033-ND
footprint CTS_ATS080B_0
pins: 1, 2